# Altium schematic symbol library WE-WPCC.SchLib: 65 symbols (part 2 of 2)
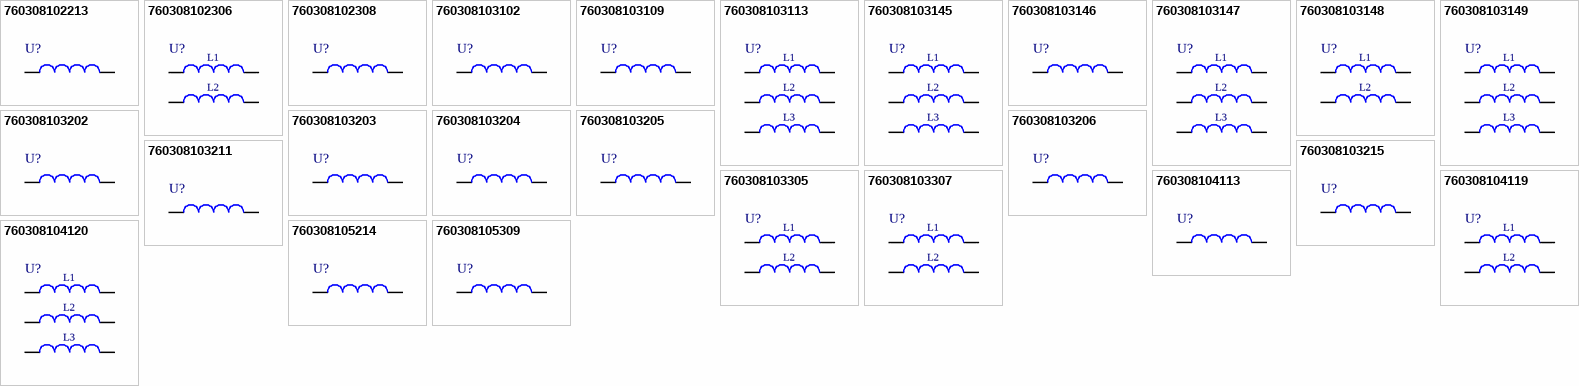
[diagram p2: symbols 760308102213 to 760308105309]

## 760308103206
designator U?, comment 7.5μH  (value not drawn)
WE-WPCC Wireless Power Transfer Receiver Coil, THT, Qi - Airfuel Alliance, 7.5μH, 20W; Manufacturer Part Number: 760308103206; Manufacturer: Wurth Elektronik; DC Resistance Max: 380mΩ; Q Factor: 16; Rated Current: 1.55A; Self Resonant Frequency: 23MHz; Category: Wireless Power Transmission; Match Code: WE-WPCC; ComponentLink1Description: Website Link; ComponentLink1URL: https://www.we-online.com/redexpert/article/760308103206?ad; ComponentLink2Description: Datasheet Link; ComponentLink2URL: https://www.we-online.com/redexpert/spec/760308103206?ad; Mount: Through Hole; Min Operating Temperature: -20°C; Max Operating Temperature: 105°C; Packaging: Tray; Length: 28mm; Width: 15mm; Height: 0.7mm; Compliance: Qi - Airfuel Alliance; Inductance: 7.5μH; Power Capability: 20W
footprint 760308103206
pins: 1, 2

## 760308103211
designator U?, comment 7.3μH  (value not drawn)
WE-WPCC Wireless Power Transfer Receiver Coil, THT, Qi - Airfuel Alliance, 7.3μH, 40W; Manufacturer Part Number: 760308103211; Manufacturer: Wurth Elektronik; DC Resistance Max: 200mΩ; Q Factor: 28; Rated Current: 2.5A; Self Resonant Frequency: 12.7MHz; Category: Wireless Power Transmission; Match Code: WE-WPCC; ComponentLink1Description: Website Link; ComponentLink1URL: https://www.we-online.com/redexpert/article/760308103211?ad; ComponentLink2Description: Datasheet Link; ComponentLink2URL: https://www.we-online.com/redexpert/spec/760308103211?ad; Mount: Through Hole; Min Operating Temperature: -20°C; Max Operating Temperature: 105°C; Packaging: Tray; Length: 46mm; Width: 36mm; Height: 0.5mm; Compliance: Qi - Airfuel Alliance; Inductance: 7.3μH; Power Capability: 40W
footprint 760308103211
pins: 1, 2

## 760308103215
designator U?, comment 14.3μH  (value not drawn)
WE-WPCC Wireless Power Transfer Receiver Coil, THT, works with Qi Rx IC's, 14.3μH, 50W; Manufacturer Part Number: 760308103215; Manufacturer: Wurth Elektronik; DC Resistance Max: 190mΩ; Q Factor: 40; Rated Current: 3A; Self Resonant Frequency: 8.8MHz; Category: Wireless Power Transmission; Match Code: WE-WPCC; ComponentLink1Description: Website Link; ComponentLink1URL: https://www.we-online.com/redexpert/article/760308103215?ad; ComponentLink2Description: Datasheet Link; ComponentLink2URL: https://www.we-online.com/redexpert/spec/760308103215?ad; Mount: Through Hole; Min Operating Temperature: -20°C; Max Operating Temperature: 105°C; Packaging: Tray; Length: 48mm; Width: 32mm; Height: 1mm; Compliance: works with Qi Rx IC's; Inductance: 14.3μH; Power Capability: 50W
footprint 760308103215
pins: 1, 2

## 760308103305
designator U?, comment 8.8μH / 1.4μH  (value not drawn)
WE-WPCC WPT/NFC Combination Coil, THT, Qi - Airfuel Alliance - NFC, 8.8μH / 1.4μH, 50W; Manufacturer Part Number: 760308103305; Manufacturer: Wurth Elektronik; DC Resistance Max: 220mΩ; DC Resistance Max 2: 100mΩ; Q Factor: 30; Q Factor 2: 47; Rated Current: 2.6A; Rated Current 2: 5A; Self Resonant Frequency: 22MHz; Self Resonant Frequency 2: 50MHz; Category: Wireless Power Transmission; Match Code: WE-WPCC; ComponentLink1Description: Website Link; ComponentLink1URL: https://www.we-online.com/redexpert/article/760308103305?ad; ComponentLink2Description: Datasheet Link; ComponentLink2URL: https://www.we-online.com/redexpert/spec/760308103305?ad; Mount: Through Hole; Min Operating Temperature: -20°C; Max Operating Temperature: 105°C; Packaging: Tray; Length: 45mm; Width: 44mm; Height: 0.7mm; Compliance: Qi - Airfuel Alliance - NFC; Inductance: 8.8μH; Inductance 2: 1.4μH; Power Capability: 50W
footprint 760308103305
pins: 1, 2, 3, 4
text: L1; L2

## 760308103307
designator U?, comment 8μH / 1.6μH  (value not drawn)
WE-WPCC WPT/NFC Combination Coil, THT, Qi - Airfuel Alliance - NFC, 8μH / 1.6μH, 30W; Manufacturer Part Number: 760308103307; Manufacturer: Wurth Elektronik; DC Resistance Max: 350mΩ; DC Resistance Max 2: 100mΩ; Q Factor: 19; Q Factor 2: 47; Rated Current: 1.5A; Rated Current 2: 4A; Self Resonant Frequency: 22MHz; Self Resonant Frequency 2: 54MHz; Category: Wireless Power Transmission; Match Code: WE-WPCC; ComponentLink1Description: Website Link; ComponentLink1URL: https://www.we-online.com/redexpert/article/760308103307?ad; ComponentLink2Description: Datasheet Link; ComponentLink2URL: https://www.we-online.com/redexpert/spec/760308103307?ad; Mount: Through Hole; Min Operating Temperature: -20°C; Max Operating Temperature: 105°C; Packaging: Tray; Length: 40mm; Width: 27mm; Height: 1mm; Compliance: Qi - Airfuel Alliance - NFC; Inductance: 8μH; Inductance 2: 1.6μH; Power Capability: 30W
footprint 760308103307
pins: 1, 2, 3, 4
text: L1; L2

## 760308104113
designator U?, comment 12μH  (value not drawn)
WE-WPCC Wireless Power Transfer Transmitter Coil, THT, Qi - A13, 12μH, 150W; Manufacturer Part Number: 760308104113; Manufacturer: Wurth Elektronik; Compliance: Qi - A13; DC Resistance Max: 72mΩ; Q Factor: 120; Rated Current: 8A; Self Resonant Frequency: 16MHz; Category: Wireless Power Transmission; Match Code: WE-WPCC; ComponentLink1Description: Website Link; ComponentLink1URL: https://www.we-online.com/redexpert/article/760308104113?ad; ComponentLink2Description: Datasheet Link; ComponentLink2URL: https://www.we-online.com/redexpert/spec/760308104113?ad; Mount: Through Hole; Min Operating Temperature: -20°C; Max Operating Temperature: 105°C; Packaging: Tray; Length: 60mm; Width: 52mm; Height: 4mm; Inductance: 12μH; Power Capability: 150W
footprint 760308104113
pins: 1, 2

## 760308104119
designator U?, comment 12μH / 11.5μH  (value not drawn)
WE-WPCC Wireless Power Array, THT, Qi - A19, 12μH / 11.5μH, 150W; Manufacturer Part Number: 760308104119; Manufacturer: Wurth Elektronik; Compliance: Qi - A19; DC Resistance Max: 68mΩ; Q Factor: 130; Rated Current: 8A; Self Resonant Frequency: 12MHz; Category: Wireless Power Transmission; Match Code: WE-WPCC; ComponentLink1Description: Website Link; ComponentLink1URL: https://www.we-online.com/redexpert/article/760308104119?ad; ComponentLink2Description: Datasheet Link; ComponentLink2URL: https://www.we-online.com/redexpert/spec/760308104119?ad; Mount: Through Hole; Min Operating Temperature: -20°C; Max Operating Temperature: 105°C; Packaging: Tray; Length: 88mm; Width: 52mm; Height: 3.5mm; DC Resistance Max 2: 68mΩ; Inductance: 12μH; Inductance 2: 11.5μH; Power Capability: 150W; Q Factor 2: 130; Rated Current 2: 8A; Self Resonant Frequency 2: 12MHz
footprint 760308104119
pins: 1, 2, 3, 4
text: L1; L2

## 760308104120
designator U?, comment 6.9μH / 6.4μH / 6.9μH  (value not drawn)
WE-WPCC Wireless Power Array, THT, Qi - A28, 6.9μH / 6.4μH / 6.9μH, 150W; Manufacturer Part Number: 760308104120; Manufacturer: Wurth Elektronik; Compliance: Qi - A28; DC Resistance Max: 45mΩ; DC Resistance Max 2: 38mΩ; Q Factor: 100; Rated Current: 9A; Self Resonant Frequency: 15MHz; Category: Wireless Power Transmission; Match Code: WE-WPCC; ComponentLink1Description: Website Link; ComponentLink1URL: https://www.we-online.com/redexpert/article/760308104120?ad; ComponentLink2Description: Datasheet Link; ComponentLink2URL: https://www.we-online.com/redexpert/spec/760308104120?ad; Mount: Through Hole; Min Operating Temperature: -20°C; Max Operating Temperature: 105°C; Packaging: Tray; Length: 92mm; Width: 50mm; Height: 5.5mm; DC Resistance Max 3: 38mΩ; Inductance: 6.9μH; Inductance 2: 6.4μH; Inductance 3: 6.9μH; Power Capability: 150W; Q Factor 2: 100; Q Factor 3: 100; Rated Current 2: 9A; Rated Current 3: 9A; Self Resonant Frequency 2: 15MHz; Self Resonant Frequency 3: 15MHz
footprint 760308104120
pins: 1, 2, 3, 4, 5, 6
text: L1; L2; L3

## 760308105214
designator U?, comment 6.3μH  (value not drawn)
WE-WPCC Wireless Power Transfer Receiver Coil, THT, works with Qi Rx IC's, 6.3μH, 20W; Manufacturer Part Number: 760308105214; Manufacturer: Wurth Elektronik; DC Resistance Max: 350mΩ; Q Factor: 15; Rated Current: 1.5A; Self Resonant Frequency: 25MHz; Category: Wireless Power Transmission; Match Code: WE-WPCC; ComponentLink1Description: Website Link; ComponentLink1URL: https://www.we-online.com/redexpert/article/760308105214?ad; ComponentLink2Description: Datasheet Link; ComponentLink2URL: https://www.we-online.com/redexpert/spec/760308105214?ad; Mount: Through Hole; Min Operating Temperature: -20°C; Max Operating Temperature: 105°C; Packaging: Tray; Height: 0.8mm; Diameter: 19mm; Compliance: works with Qi Rx IC's; Inductance: 6.3μH; Power Capability: 20W
footprint 760308105214
pins: 1, 2

## 760308105309
designator U?, comment 10.5μH  (value not drawn)
WE-WPCC Wireless Power Transfer Receiver Coil, THT, works with Qi Rx IC's, 10.5μH, 20W; Manufacturer Part Number: 760308105309; Manufacturer: Wurth Elektronik; DC Resistance Max: 450mΩ; Q Factor: 19; Rated Current: 1.5A; Self Resonant Frequency: 18.5MHz; Category: Wireless Power Transmission; Match Code: WE-WPCC; ComponentLink1Description: Website Link; ComponentLink1URL: https://www.we-online.com/redexpert/article/760308105309?ad; ComponentLink2Description: Datasheet Link; ComponentLink2URL: https://www.we-online.com/redexpert/spec/760308105309?ad; Mount: Through Hole; Min Operating Temperature: -20°C; Max Operating Temperature: 105°C; Packaging: Tray; Height: 0.5mm; Diameter: 26mm; Compliance: works with Qi Rx IC's; Inductance: 10.5μH; Power Capability: 20W
footprint 760308105309
pins: 1, 2